# Altium integrated library TI Amplifiers and Linear PGA-VGA.IntLib: 149 symbols (part 6 of 8)
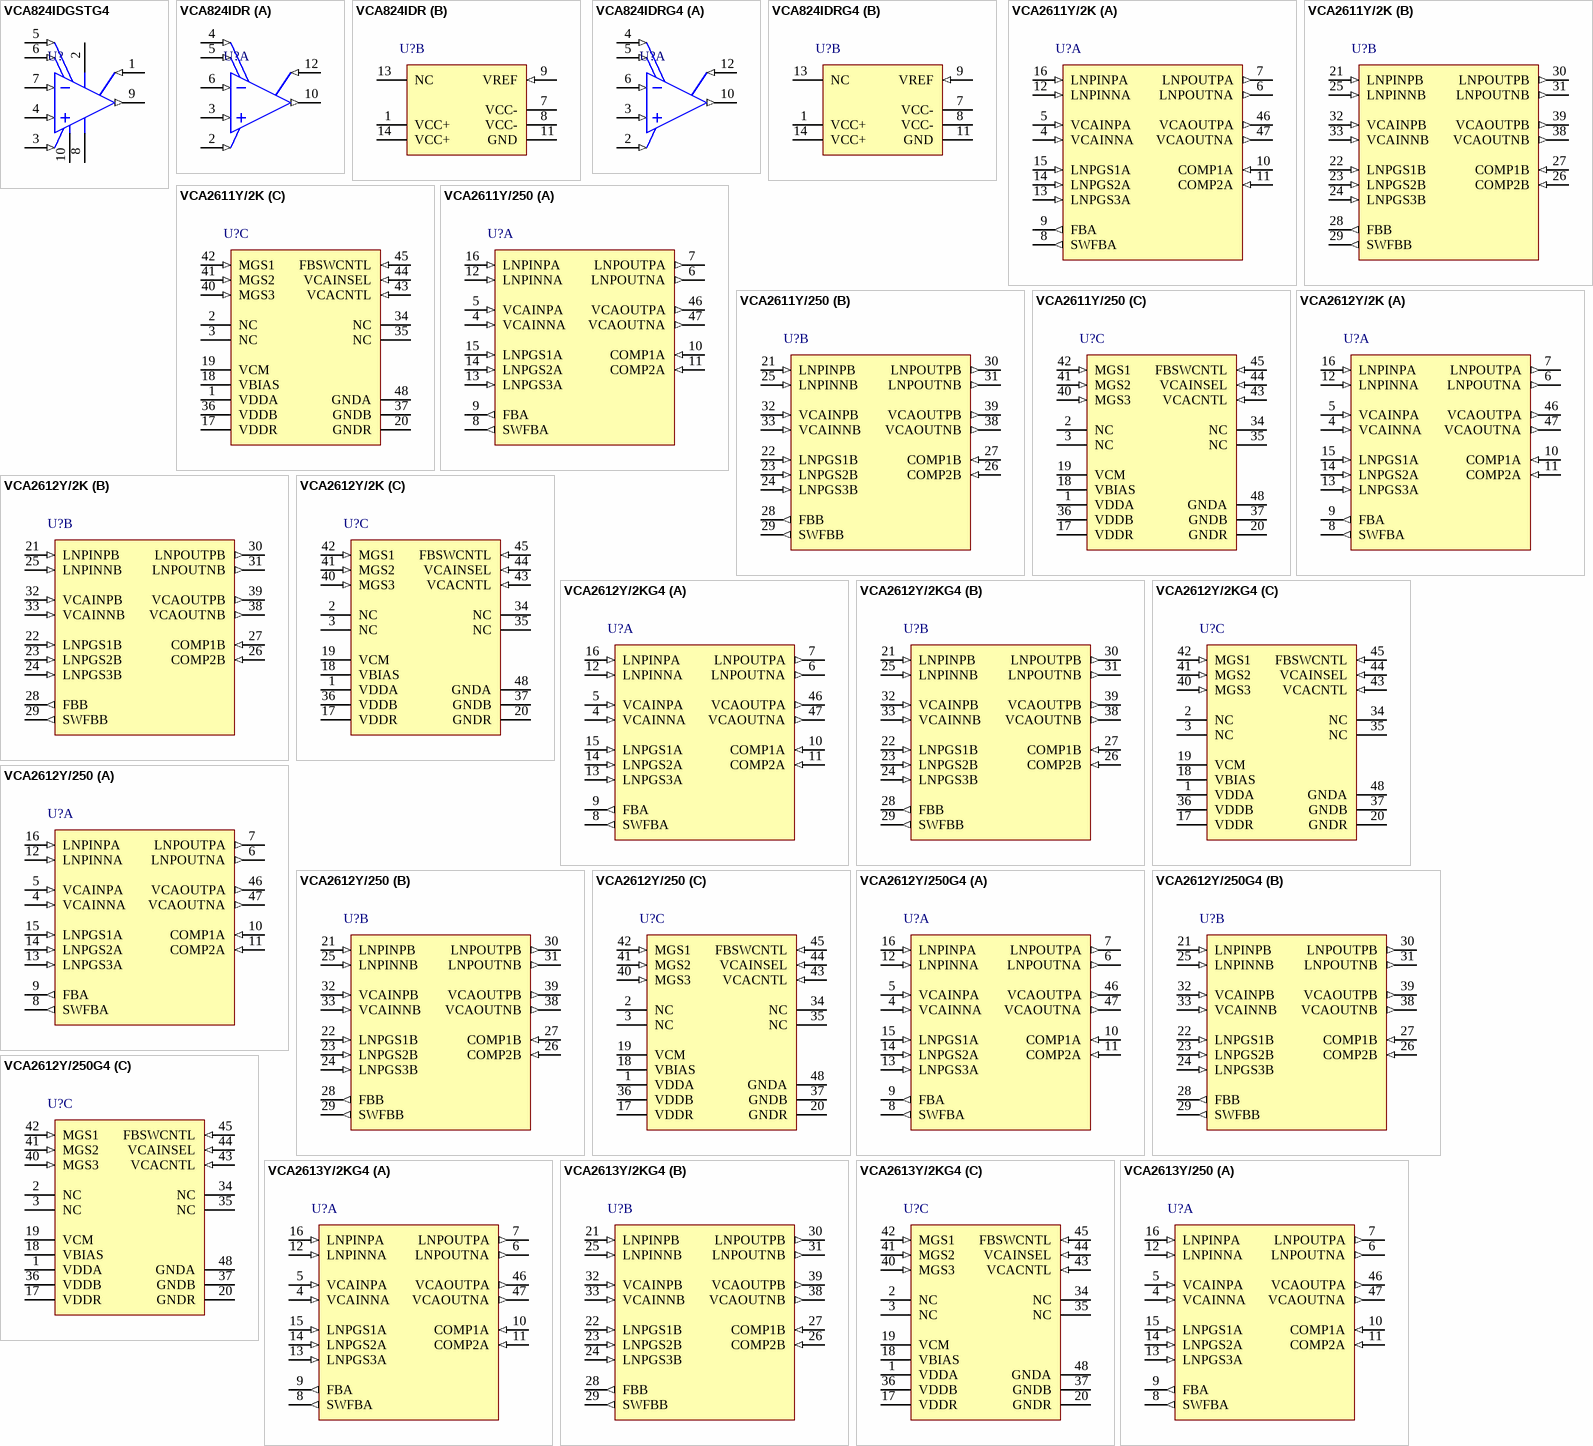
[diagram p12: symbols VCA824IDGSTG4 to VCA2613Y/250]

## VCA2612Y/250G4
designator U?
Dual Variable Gain Amplifier with Low Noise Pre-Amplifier, -40 to 85 degC, 48-pin QFP (PFB48), Green (RoHS & no Sb/Br); Manufacturer: Texas Instruments; PartNumber: VCA2612Y/250G4; BW @ Acl(MHz): 40; Iib(Max)(nA): 1; Number of Channels: 2; Slew Rate(Typ)(V/us): 300; Vn at Flatband(Typ)(nV/rtHz): 3.5; Vs(Max)(V): 5.25; Vs(Min)(V): 4.75; DatasheetVersion: SBOS117C; PackageVersion: 4073176/B, 10/1996; PackageReference: PFB48; PackageDescription: 48-Pin Plastic Flat Pack, Body 7 x 7 mm, Pitch 0.5 mm; Supplier 1: Digi-Key; Supplier Part Number 1: VCA2612Y/250G4-ND; Supplier 2: Mouser; Supplier Part Number 2: 595-VCA2612Y/250G4; Eco-Plan: Green (RoHS & no Sb/Br); SubFamily: Variable Gain Amplifier; Mounting Technology: Surface Mount; Code_JEDEC: MS-026; ComponentLink1Description: Manufacturer URL; ComponentLink1URL: http://www.ti.com/; ComponentLink2Description: Datasheet; ComponentLink2URL: http://www.ti.com/general/docs/lit/getliterature.tsp?genericPartNumber=VCA2612&fileType=pdf; ComponentLink3Description: Package Specification; ComponentLink3URL: http://www.ti.com/lit/ml/mtqf019a/mtqf019a.pdf
footprint TI-PFB48_N (QFP, 48-Leads, Body 7x7mm, Pitch 0.5mm, IPC Medium Density)
footprint TI-PFB48_L (QFP, 48-Leads, Body 7x7mm, Pitch 0.5mm, IPC High Density)
footprint TI-PFB48_M (QFP, 48-Leads, Body 7x7mm, Pitch 0.5mm, IPC Low Density)
part A pins: 4 VCAINNA (in) "Channel A VCA Negative Input", 5 VCAINPA (in) "Channel A VCA Positive Input", 6 LNPOUTNA (out) "Channel A LNP Negative Output", 7 LNPOUTPA (out) "Channel A LNP Positive Output", 8 SWFBA (out) "Channel A Switched Feedback Output", 9 FBA (out) "Channel A Feedback Output", 10 COMP1A (in) "Channel A Frequency Compensation 1", 11 COMP2A (in) "Channel A Frequency Compensation 2", 12 LNPINNA (in) "Channel A LNP Inverting Input", 13 LNPGS3A (in) "Channel A LNP Gain Strap 3", 14 LNPGS2A (in) "Channel A LNP Gain Strap 2", 15 LNPGS1A (in) "Channel A LNP Gain Strap 1", 16 LNPINPA (in) "Channel A LNP Noninverting Input", 46 VCAOUTPA (out) "Channel A VCA Positive Output", 47 VCAOUTNA (out) "Channel A VCA Negative Output"
part B pins: 21 LNPINPB (in) "Channel B LNP Noninverting Input", 22 LNPGS1B (in) "Channel B LNP Gain Strap 1", 23 LNPGS2B (in) "Channel B LNP Gain Strap 2", 24 LNPGS3B (in) "Channel B LNP Gain Strap 3", 25 LNPINNB (in) "Channel B LNP Inverting Input", 26 COMP2B (in) "Channel B Frequency Compensation 2", 27 COMP1B (in) "Channel B Frequency Compensation 1", 28 FBB (out) "Channel B Feedback Output", 29 SWFBB (out) "Channel B Switched Feedback Output", 30 LNPOUTPB (out) "Channel B LNP Positive Output", 31 LNPOUTNB (out) "Channel B LNP Negative Output", 32 VCAINPB (in) "Channel B VCA Positive Input", 33 VCAINNB (in) "Channel B VCA Negative Input", 38 VCAOUTNB (out) "Channel B VCA Negative Output", 39 VCAOUTPB (out) "Channel B VCA Positive Output"
part C pins: 1 VDDA (power) "Channel A +Supply", 2 NC "Do Not Connect", 3 NC "Do Not Connect", 17 VDDR (power) "+Supply for Internal Reference (+5V)", 18 VBIAS (power) "0.01uF Bypass to Ground", 19 VCM (power) "0.01uF Bypass to Ground", 20 GNDR (power) "Ground for Internal Reference", 34 NC "Do Not Connect", 35 NC "Do Not Connect", 36 VDDB (power) "Channel B +Analog Supply", 37 GNDB (power) "Channel B Analog Ground", 40 MGS3 (in) "Maximum Gain Select 3 (LSB)", 41 MGS2 (in) "Maximum Gain Select 2", 42 MGS1 (in) "Maximum Gain Select 1 (MSB)", 43 VCACNTL (in) "VCA Control Voltage", 44 VCAINSEL (in) "VCA Input Select, HI = External", 45 FBSWCNTL (in) "Feedback Switch Control: HI = ON", 48 GNDA (power) "Channel A Analog Ground"

## VCA2613Y/2KG4
designator U?
Dual Variable Gain Amplifier with Low Noise Pre-Amplifier, -40 to 85 degC, 48-pin QFP (PFB48); Manufacturer: Texas Instruments; PartNumber: VCA2613Y/2KG4; BW @ Acl(MHz): 40; Iib(Max)(nA): 1; Number of Channels: 2; Slew Rate(Typ)(V/us): 300; Vn at Flatband(Typ)(nV/rtHz): 3.5; Vs(Max)(V): 5.25; Vs(Min)(V): 4.75; DatasheetVersion: SBOS179D; PackageVersion: 4073176/B, 10/1996; PackageReference: PFB48; PackageDescription: 48-Pin Plastic Flat Pack, Body 7 x 7 mm, Pitch 0.5 mm; Supplier 1: Mouser; Supplier Part Number 1: N/A; SubFamily: Variable Gain Amplifier; Mounting Technology: Surface Mount; Code_JEDEC: MS-026; ComponentLink1Description: Manufacturer URL; ComponentLink1URL: http://www.ti.com/; ComponentLink2Description: Datasheet; ComponentLink2URL: http://www.ti.com/general/docs/lit/getliterature.tsp?genericPartNumber=VCA2613&fileType=pdf; ComponentLink3Description: Package Specification; ComponentLink3URL: http://www.ti.com/lit/ml/mtqf019a/mtqf019a.pdf
footprint TI-PFB48_N (QFP, 48-Leads, Body 7x7mm, Pitch 0.5mm, IPC Medium Density)
footprint TI-PFB48_L (QFP, 48-Leads, Body 7x7mm, Pitch 0.5mm, IPC High Density)
footprint TI-PFB48_M (QFP, 48-Leads, Body 7x7mm, Pitch 0.5mm, IPC Low Density)
part A pins: 4 VCAINNA (in) "Channel A VCA Negative Input", 5 VCAINPA (in) "Channel A VCA Positive Input", 6 LNPOUTNA (out) "Channel A LNP Negative Output", 7 LNPOUTPA (out) "Channel A LNP Positive Output", 8 SWFBA (out) "Channel A Switched Feedback Output", 9 FBA (out) "Channel A Feedback Output", 10 COMP1A (in) "Channel A Frequency Compensation 1", 11 COMP2A (in) "Channel A Frequency Compensation 2", 12 LNPINNA (in) "Channel A LNP Inverting Input", 13 LNPGS3A (in) "Channel A LNP Gain Strap 3", 14 LNPGS2A (in) "Channel A LNP Gain Strap 2", 15 LNPGS1A (in) "Channel A LNP Gain Strap 1", 16 LNPINPA (in) "Channel A LNP Noninverting Input", 46 VCAOUTPA (out) "Channel A VCA Positive Output", 47 VCAOUTNA (out) "Channel A VCA Negative Output"
part B pins: 21 LNPINPB (in) "Channel B LNP Noninverting Input", 22 LNPGS1B (in) "Channel B LNP Gain Strap 1", 23 LNPGS2B (in) "Channel B LNP Gain Strap 2", 24 LNPGS3B (in) "Channel B LNP Gain Strap 3", 25 LNPINNB (in) "Channel B LNP Inverting Input", 26 COMP2B (in) "Channel B Frequency Compensation 2", 27 COMP1B (in) "Channel B Frequency Compensation 1", 28 FBB (out) "Channel B Feedback Output", 29 SWFBB (out) "Channel B Switched Feedback Output", 30 LNPOUTPB (out) "Channel B LNP Positive Output", 31 LNPOUTNB (out) "Channel B LNP Negative Output", 32 VCAINPB (in) "Channel B VCA Positive Input", 33 VCAINNB (in) "Channel B VCA Negative Input", 38 VCAOUTNB (out) "Channel B VCA Negative Output", 39 VCAOUTPB (out) "Channel B VCA Positive Output"
part C pins: 1 VDDA (power) "Channel A +Supply", 2 NC "Do Not Connect", 3 NC "Do Not Connect", 17 VDDR (power) "+Supply for Internal Reference", 18 VBIAS (power) "0.01uF Bypass to Ground", 19 VCM (power) "0.01uF Bypass to Ground", 20 GNDR (power) "Ground for Internal Reference", 34 NC "Do Not Connect", 35 NC "Do Not Connect", 36 VDDB (power) "Channel B +Analog Supply", 37 GNDB (power) "Channel B Analog Ground", 40 MGS3 (in) "Maximum Gain Select 3 (LSB)", 41 MGS2 (in) "Maximum Gain Select 2", 42 MGS1 (in) "Maximum Gain Select 1 (MSB)", 43 VCACNTL (in) "VCA Control Voltage", 44 VCAINSEL (in) "VCA Input Select, HI = External", 45 FBSWCNTL (in) "Feedback Switch Control: HI = ON", 48 GNDA (power) "Channel A Analog Ground"

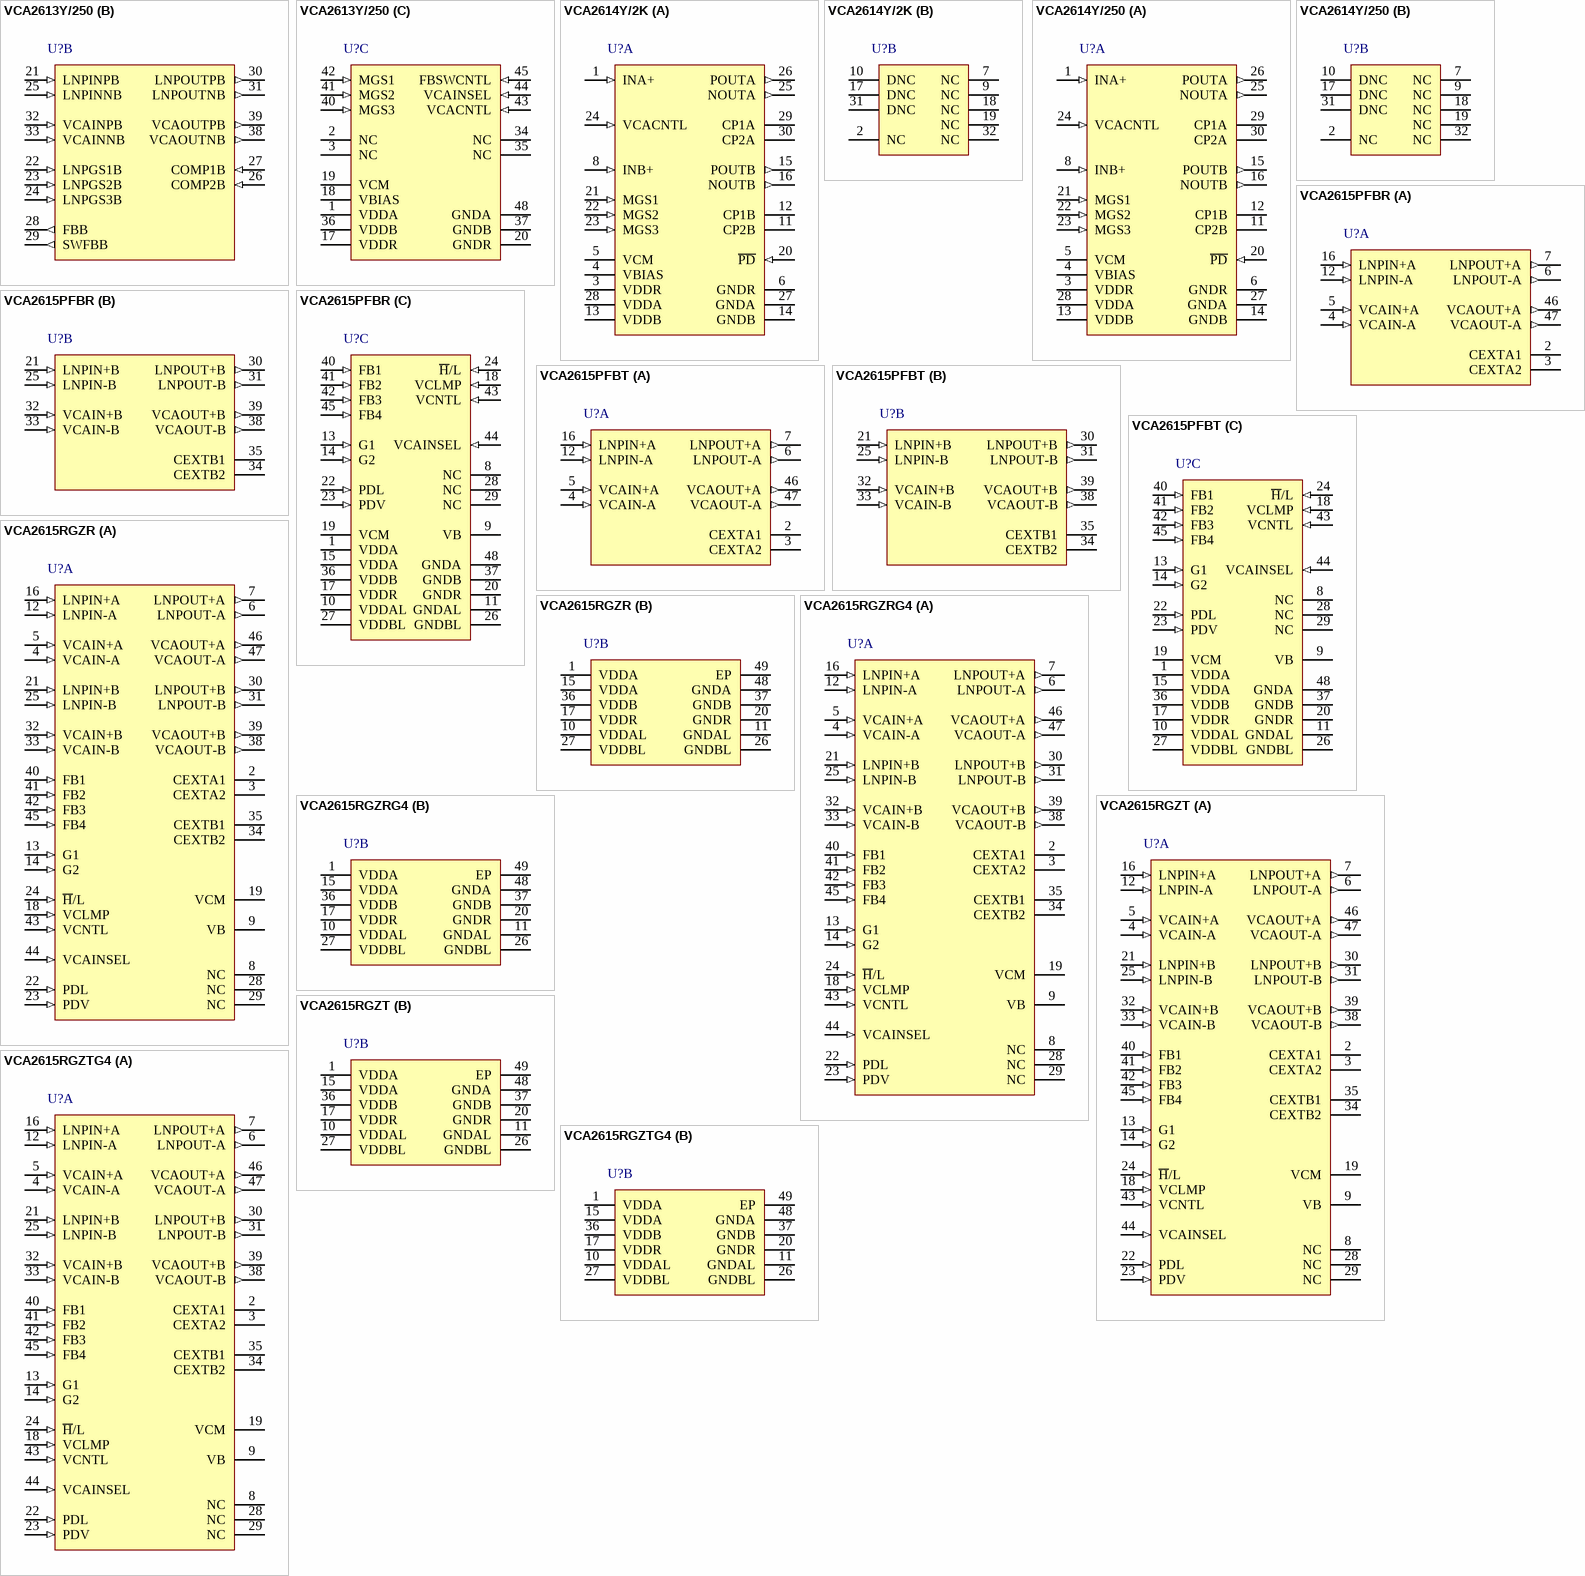
[diagram p5: symbols VCA2613Y/250 to VCA2615RGZTG4]

## VCA2613Y/250
designator U?
Dual Variable Gain Amplifier with Low Noise Pre-Amplifier, -40 to 85 degC, 48-pin QFP (PFB48), Green (RoHS & no Sb/Br); Manufacturer: Texas Instruments; PartNumber: VCA2613Y/250; BW @ Acl(MHz): 40; Iib(Max)(nA): 1; Number of Channels: 2; Slew Rate(Typ)(V/us): 300; Vn at Flatband(Typ)(nV/rtHz): 3.5; Vs(Max)(V): 5.25; Vs(Min)(V): 4.75; DatasheetVersion: SBOS179D; PackageVersion: 4073176/B, 10/1996; PackageReference: PFB48; PackageDescription: 48-Pin Plastic Flat Pack, Body 7 x 7 mm, Pitch 0.5 mm; Supplier 1: Digi-Key; Supplier Part Number 1: VCA2613YTR-ND; Supplier 2: Digi-Key; Supplier Part Number 2: VCA2613YCT-ND; Supplier 3: Digi-Key; Supplier Part Number 3: VCA2613YDKR-ND; Supplier 4: Mouser; Supplier Part Number 4: 595-VCA2613Y/250; Eco-Plan: Green (RoHS & no Sb/Br); SubFamily: Variable Gain Amplifier; Mounting Technology: Surface Mount; Code_JEDEC: MS-026; ComponentLink1Description: Manufacturer URL; ComponentLink1URL: http://www.ti.com/; ComponentLink2Description: Datasheet; ComponentLink2URL: http://www.ti.com/general/docs/lit/getliterature.tsp?genericPartNumber=VCA2613&fileType=pdf; ComponentLink3Description: Package Specification; ComponentLink3URL: http://www.ti.com/lit/ml/mtqf019a/mtqf019a.pdf
footprint TI-PFB48_N (QFP, 48-Leads, Body 7x7mm, Pitch 0.5mm, IPC Medium Density)
footprint TI-PFB48_L (QFP, 48-Leads, Body 7x7mm, Pitch 0.5mm, IPC High Density)
footprint TI-PFB48_M (QFP, 48-Leads, Body 7x7mm, Pitch 0.5mm, IPC Low Density)
part A pins: 4 VCAINNA (in) "Channel A VCA Negative Input", 5 VCAINPA (in) "Channel A VCA Positive Input", 6 LNPOUTNA (out) "Channel A LNP Negative Output", 7 LNPOUTPA (out) "Channel A LNP Positive Output", 8 SWFBA (out) "Channel A Switched Feedback Output", 9 FBA (out) "Channel A Feedback Output", 10 COMP1A (in) "Channel A Frequency Compensation 1", 11 COMP2A (in) "Channel A Frequency Compensation 2", 12 LNPINNA (in) "Channel A LNP Inverting Input", 13 LNPGS3A (in) "Channel A LNP Gain Strap 3", 14 LNPGS2A (in) "Channel A LNP Gain Strap 2", 15 LNPGS1A (in) "Channel A LNP Gain Strap 1", 16 LNPINPA (in) "Channel A LNP Noninverting Input", 46 VCAOUTPA (out) "Channel A VCA Positive Output", 47 VCAOUTNA (out) "Channel A VCA Negative Output"
part B pins: 21 LNPINPB (in) "Channel B LNP Noninverting Input", 22 LNPGS1B (in) "Channel B LNP Gain Strap 1", 23 LNPGS2B (in) "Channel B LNP Gain Strap 2", 24 LNPGS3B (in) "Channel B LNP Gain Strap 3", 25 LNPINNB (in) "Channel B LNP Inverting Input", 26 COMP2B (in) "Channel B Frequency Compensation 2", 27 COMP1B (in) "Channel B Frequency Compensation 1", 28 FBB (out) "Channel B Feedback Output", 29 SWFBB (out) "Channel B Switched Feedback Output", 30 LNPOUTPB (out) "Channel B LNP Positive Output", 31 LNPOUTNB (out) "Channel B LNP Negative Output", 32 VCAINPB (in) "Channel B VCA Positive Input", 33 VCAINNB (in) "Channel B VCA Negative Input", 38 VCAOUTNB (out) "Channel B VCA Negative Output", 39 VCAOUTPB (out) "Channel B VCA Positive Output"
part C pins: 1 VDDA (power) "Channel A +Supply", 2 NC "Do Not Connect", 3 NC "Do Not Connect", 17 VDDR (power) "+Supply for Internal Reference", 18 VBIAS (power) "0.01uF Bypass to Ground", 19 VCM (power) "0.01uF Bypass to Ground", 20 GNDR (power) "Ground for Internal Reference", 34 NC "Do Not Connect", 35 NC "Do Not Connect", 36 VDDB (power) "Channel B +Analog Supply", 37 GNDB (power) "Channel B Analog Ground", 40 MGS3 (in) "Maximum Gain Select 3 (LSB)", 41 MGS2 (in) "Maximum Gain Select 2", 42 MGS1 (in) "Maximum Gain Select 1 (MSB)", 43 VCACNTL (in) "VCA Control Voltage", 44 VCAINSEL (in) "VCA Input Select, HI = External", 45 FBSWCNTL (in) "Feedback Switch Control: HI = ON", 48 GNDA (power) "Channel A Analog Ground"

## VCA2614Y/2K
designator U?
Dual Variable Gain Amplifier with Low Noise Pre-Amplifier, -40 to 85 degC, 32-pin QFP (PBS32), Green (RoHS & no Sb/Br); Manufacturer: Texas Instruments; PartNumber: VCA2614Y/2K; BW @ Acl(MHz): 40; Iib(Max)(nA): 1; Number of Channels: 2; Slew Rate(Typ)(V/us): 300; Vn at Flatband(Typ)(nV/rtHz): 4.8; Vs(Max)(V): 5.25; Vs(Min)(V): 4.75; DatasheetVersion: SBOS185D; PackageVersion: 4087735/B, 07/2005; PackageReference: PBS32; PackageDescription: 32-Pin Plastic Flat Pack, Body 5 X 5 mm, Pitch 0.5 mm; Supplier 1: Digi-Key; Supplier Part Number 1: VCA2614Y/2K-ND; Supplier 2: Mouser; Supplier Part Number 2: 595-VCA2614Y/2K; Eco-Plan: Green (RoHS & no Sb/Br); SubFamily: Variable Gain Amplifier; Mounting Technology: Surface Mount; Code_JEDEC: MS-026; ComponentLink1Description: Manufacturer URL; ComponentLink1URL: http://www.ti.com/; ComponentLink2Description: Datasheet; ComponentLink2URL: http://www.ti.com/general/docs/lit/getliterature.tsp?genericPartNumber=VCA2614&fileType=pdf; ComponentLink3Description: Package Specification; ComponentLink3URL: http://www.ti.com/lit/ml/mpqf027a/mpqf027a.pdf
footprint TI-PBS32_N (QFP, 32-Leads, Body 5x5mm, Pitch 0.5mm, IPC Medium Density)
footprint TI-PBS32_L (QFP, 32-Leads, Body 5x5mm, Pitch 0.5mm, IPC High Density)
footprint TI-PBS32_M (QFP, 32-Leads, Body 5x5mm, Pitch 0.5mm, IPC Low Density)
part A pins: 1 INA+ (in) "Input Channel A", 3 VDDR (power) "Internal Reference Supply", 4 VBIAS (power) "Bias Voltage", 5 VCM (power) "Common-Mode Voltage", 6 GNDR (power) "Internal Reference Ground", 8 INB+ (in) "Input Channel B", 11 CP2B "Coupling Capacitor Channel B", 12 CP1B "Coupling Capacitor Channel B", 13 VDDB (power) "+5V Supply Channel B", 14 GNDB (power) "Ground Channel B", 15 POUTB (out) "Positive Output Channel B", 16 NOUTB (out) "Negative Output Channel B", 20 ~{PD} (in) "Power Down (Active LOW)", 21 MGS1 (in) "Maximum Gain Select 1 (MSB)", 22 MGS2 (in) "Maximum Gain Select 2", 23 MGS3 (in) "Maximum Gain Select 3 (LSB)", 24 VCACNTL (in) "VCA Analog Control", 25 NOUTA (out) "Negative VCA Output Channel A", 26 POUTA (out) "Positive VCA Output Channel A", 27 GNDA (power) "Ground Channel A", 28 VDDA (power) "+5V Supply Channel A", 29 CP1A "Coupling Capacitor Channel A", 30 CP2A "Coupling Capacitor Channel A"
part B pins: 2 NC "No Internal Connection", 7 NC "No Internal Connection", 9 NC "No Internal Connection", 10 DNC "Do Not Connect", 17 DNC "Do Not Connect", 18 NC "No Internal Connection", 19 NC "No Internal Connection", 31 DNC "Do Not Connect", 32 NC "No Internal Connection"

## VCA2614Y/250
designator U?
Dual Variable Gain Amplifier with Low Noise Pre-Amplifier, -40 to 85 degC, 32-pin QFP (PBS32), Green (RoHS & no Sb/Br); Manufacturer: Texas Instruments; PartNumber: VCA2614Y/250; BW @ Acl(MHz): 40; Iib(Max)(nA): 1; Number of Channels: 2; Slew Rate(Typ)(V/us): 300; Vn at Flatband(Typ)(nV/rtHz): 4.8; Vs(Max)(V): 5.25; Vs(Min)(V): 4.75; DatasheetVersion: SBOS185D; PackageVersion: 4087735/B, 07/2005; PackageReference: PBS32; PackageDescription: 32-Pin Plastic Flat Pack, Body 5 X 5 mm, Pitch 0.5 mm; Supplier 1: Digi-Key; Supplier Part Number 1: VCA2614Y/250TR-ND; Supplier 2: Digi-Key; Supplier Part Number 2: VCA2614Y/250CT-ND; Supplier 3: Newark; Supplier Part Number 3: 77C3577; Supplier 4: Mouser; Supplier Part Number 4: 595-VCA2614Y/250; Eco-Plan: Green (RoHS & no Sb/Br); SubFamily: Variable Gain Amplifier; Mounting Technology: Surface Mount; Code_JEDEC: MS-026; ComponentLink1Description: Manufacturer URL; ComponentLink1URL: http://www.ti.com/; ComponentLink2Description: Datasheet; ComponentLink2URL: http://www.ti.com/general/docs/lit/getliterature.tsp?genericPartNumber=VCA2614&fileType=pdf; ComponentLink3Description: Package Specification; ComponentLink3URL: http://www.ti.com/lit/ml/mpqf027a/mpqf027a.pdf
footprint TI-PBS32_N (QFP, 32-Leads, Body 5x5mm, Pitch 0.5mm, IPC Medium Density)
footprint TI-PBS32_L (QFP, 32-Leads, Body 5x5mm, Pitch 0.5mm, IPC High Density)
footprint TI-PBS32_M (QFP, 32-Leads, Body 5x5mm, Pitch 0.5mm, IPC Low Density)
part A pins: 1 INA+ (in) "Input Channel A", 3 VDDR (power) "Internal Reference Supply", 4 VBIAS (power) "Bias Voltage", 5 VCM (power) "Common-Mode Voltage", 6 GNDR (power) "Internal Reference Ground", 8 INB+ (in) "Input Channel B", 11 CP2B "Coupling Capacitor Channel B", 12 CP1B "Coupling Capacitor Channel B", 13 VDDB (power) "+5V Supply Channel B", 14 GNDB (power) "Ground Channel B", 15 POUTB (out) "Positive Output Channel B", 16 NOUTB (out) "Negative Output Channel B", 20 ~{PD} (in) "Power Down (Active LOW)", 21 MGS1 (in) "Maximum Gain Select 1 (MSB)", 22 MGS2 (in) "Maximum Gain Select 2", 23 MGS3 (in) "Maximum Gain Select 3 (LSB)", 24 VCACNTL (in) "VCA Analog Control", 25 NOUTA (out) "Negative VCA Output Channel A", 26 POUTA (out) "Positive VCA Output Channel A", 27 GNDA (power) "Ground Channel A", 28 VDDA (power) "+5V Supply Channel A", 29 CP1A "Coupling Capacitor Channel A", 30 CP2A "Coupling Capacitor Channel A"
part B pins: 2 NC "No Internal Connection", 7 NC "No Internal Connection", 9 NC "No Internal Connection", 10 DNC "Do Not Connect", 17 DNC "Do Not Connect", 18 NC "No Internal Connection", 19 NC "No Internal Connection", 31 DNC "Do Not Connect", 32 NC "No Internal Connection"

## VCA2615PFBR
designator U?
2-Channel Variable Gain Amplifier, -40 to 85 degC, 48-pin QFP (PFB48), Green (RoHS & no Sb/Br); Manufacturer: Texas Instruments; PartNumber: VCA2615PFBR; BW @ Acl(MHz): 50; Number of Channels: 2; Slew Rate(Typ)(V/us): 100; Vn at Flatband(Typ)(nV/rtHz): 0.8; Vs(Max)(V): 5.25; Vs(Min)(V): 4.75; DatasheetVersion: SBOS316D; PackageVersion: 4073176/B, 10/1996; PackageReference: PFB48; PackageDescription: 48-Pin Plastic Flat Pack, Body 7 x 7 mm, Pitch 0.5 mm; Supplier 1: Digi-Key; Supplier Part Number 1: 296-23594-2-ND; Supplier 2: Digi-Key; Supplier Part Number 2: 296-23594-1-ND; Supplier 3: Digi-Key; Supplier Part Number 3: 296-23594-6-ND; Supplier 4: Newark; Supplier Part Number 4: 03P5357; Supplier 5: Mouser; Supplier Part Number 5: 595-VCA2615PFBR; Eco-Plan: Green (RoHS & no Sb/Br); SubFamily: Variable Gain Amplifier; Mounting Technology: Surface Mount; Code_JEDEC: MS-026; ComponentLink1Description: Manufacturer URL; ComponentLink1URL: http://www.ti.com/; ComponentLink2Description: Datasheet; ComponentLink2URL: http://www.ti.com/general/docs/lit/getliterature.tsp?genericPartNumber=VCA2615&fileType=pdf; ComponentLink3Description: Package Specification; ComponentLink3URL: http://www.ti.com/lit/ml/mtqf019a/mtqf019a.pdf
footprint TI-PFB48_N (QFP, 48-Leads, Body 7x7mm, Pitch 0.5mm, IPC Medium Density)
footprint TI-PFB48_L (QFP, 48-Leads, Body 7x7mm, Pitch 0.5mm, IPC High Density)
footprint TI-PFB48_M (QFP, 48-Leads, Body 7x7mm, Pitch 0.5mm, IPC Low Density)
part A pins: 2 CEXTA1 "External Capacitor", 3 CEXTA2 "External Capacitor", 4 VCAIN-A (in) "Channel A VCA Negative Input", 5 VCAIN+A (in) "Channel A VCA Positive Input", 6 LNPOUT-A (out) "Channel A LNP Negative Output", 7 LNPOUT+A (out) "Channel A LNP Positive Output", 12 LNPIN-A (in) "Channel A LNP Inverting Input", 16 LNPIN+A (in) "Channel A LNP Noninverting Input", 46 VCAOUT+A (out) "Channel A VCA Positive Pin", 47 VCAOUT-A (out) "Channel A VCA Negative Pin"
part B pins: 21 LNPIN+B (in) "Channel B LNP Noninverting Input", 25 LNPIN-B (in) "Channel B LNP Inverting Input", 30 LNPOUT+B (out) "Channel B LNP Positive Output", 31 LNPOUT-B (out) "Channel B LNP Negative Output", 32 VCAIN+B (in) "Channel B VCA Positive Input", 33 VCAIN-B (in) "Channel B VCA Negative Input", 34 CEXTB2 "External Capacitor", 35 CEXTB1 "External Capacitor", 38 VCAOUT-B (out) "Channel B VCA Negative Output", 39 VCAOUT+B (out) "Channel B VCA Positive Output"
part C pins: 1 VDDA (power) "Channel A + Supply", 8 NC "Do Not Connect", 9 VB "0.01uF Bypass", 10 VDDAL (power) "VDD A Channel LNP", 11 GNDAL (power) "GND A Channel LNP", 13 G1 (in) "LNP Gain Setting Pin (MSB)", 14 G2 (in) "LNP Gain Setting Pin (LSB)", 15 VDDA (power) "Supply Pin for Gain Setting", 17 VDDR (power) "Supply for Internal Reference", 18 VCLMP (in) "VCA Clamp Voltage Setting Pin", 19 VCM (power) "0.1uF Bypass", 20 GNDR (power) "Ground for Internal Reference", 22 PDL (in) "Power Down LNPs", 23 PDV (in) "Power Down VCAs", 24 ~{H}/L (in) "VCA High/Low Gain Mode", 26 GNDBL (power) "GND B Channel LNP", 27 VDDBL (power) "VDD B Channel LNP", 28 NC "Do Not Connect", 29 NC "Do Not Connect", 36 VDDB (power) "Channel B + Supply", 37 GNDB (power) "Channel B Ground", 40 FB1 (in) "Feedback Control Pin", 41 FB2 (in) "Feedback Control Pin", 42 FB3 (in) "Feedback Control Pin", 43 VCNTL (in) "VCA Control Voltage Input", 44 VCAINSEL (in) "VCA Input Select, Hi = External", 45 FB4 (in) "Feedback Control Pin", 48 GNDA (power) "Channel A Ground"

## VCA2615PFBT
designator U?
2-Channel Variable Gain Amplifier, -40 to 85 degC, 48-pin QFP (PFB48), Green (RoHS & no Sb/Br); Manufacturer: Texas Instruments; PartNumber: VCA2615PFBT; BW @ Acl(MHz): 50; Number of Channels: 2; Slew Rate(Typ)(V/us): 100; Vn at Flatband(Typ)(nV/rtHz): 0.8; Vs(Max)(V): 5.25; Vs(Min)(V): 4.75; DatasheetVersion: SBOS316D; PackageVersion: 4073176/B, 10/1996; PackageReference: PFB48; PackageDescription: 48-Pin Plastic Flat Pack, Body 7 x 7 mm, Pitch 0.5 mm; Supplier 1: Digi-Key; Supplier Part Number 1: VCA2615PFBT-ND; Supplier 2: Mouser; Supplier Part Number 2: 595-VCA2615PFBT; Eco-Plan: Green (RoHS & no Sb/Br); SubFamily: Variable Gain Amplifier; Mounting Technology: Surface Mount; Code_JEDEC: MS-026; ComponentLink1Description: Manufacturer URL; ComponentLink1URL: http://www.ti.com/; ComponentLink2Description: Datasheet; ComponentLink2URL: http://www.ti.com/general/docs/lit/getliterature.tsp?genericPartNumber=VCA2615&fileType=pdf; ComponentLink3Description: Package Specification; ComponentLink3URL: http://www.ti.com/lit/ml/mtqf019a/mtqf019a.pdf
footprint TI-PFB48_N (QFP, 48-Leads, Body 7x7mm, Pitch 0.5mm, IPC Medium Density)
footprint TI-PFB48_L (QFP, 48-Leads, Body 7x7mm, Pitch 0.5mm, IPC High Density)
footprint TI-PFB48_M (QFP, 48-Leads, Body 7x7mm, Pitch 0.5mm, IPC Low Density)
part A pins: 2 CEXTA1 "External Capacitor", 3 CEXTA2 "External Capacitor", 4 VCAIN-A (in) "Channel A VCA Negative Input", 5 VCAIN+A (in) "Channel A VCA Positive Input", 6 LNPOUT-A (out) "Channel A LNP Negative Output", 7 LNPOUT+A (out) "Channel A LNP Positive Output", 12 LNPIN-A (in) "Channel A LNP Inverting Input", 16 LNPIN+A (in) "Channel A LNP Noninverting Input", 46 VCAOUT+A (out) "Channel A VCA Positive Pin", 47 VCAOUT-A (out) "Channel A VCA Negative Pin"
part B pins: 21 LNPIN+B (in) "Channel B LNP Noninverting Input", 25 LNPIN-B (in) "Channel B LNP Inverting Input", 30 LNPOUT+B (out) "Channel B LNP Positive Output", 31 LNPOUT-B (out) "Channel B LNP Negative Output", 32 VCAIN+B (in) "Channel B VCA Positive Input", 33 VCAIN-B (in) "Channel B VCA Negative Input", 34 CEXTB2 "External Capacitor", 35 CEXTB1 "External Capacitor", 38 VCAOUT-B (out) "Channel B VCA Negative Output", 39 VCAOUT+B (out) "Channel B VCA Positive Output"
part C pins: 1 VDDA (power) "Channel A + Supply", 8 NC "Do Not Connect", 9 VB "0.01uF Bypass", 10 VDDAL (power) "VDD A Channel LNP", 11 GNDAL (power) "GND A Channel LNP", 13 G1 (in) "LNP Gain Setting Pin (MSB)", 14 G2 (in) "LNP Gain Setting Pin (LSB)", 15 VDDA (power) "Supply Pin for Gain Setting", 17 VDDR (power) "Supply for Internal Reference", 18 VCLMP (in) "VCA Clamp Voltage Setting Pin", 19 VCM (power) "0.1uF Bypass", 20 GNDR (power) "Ground for Internal Reference", 22 PDL (in) "Power Down LNPs", 23 PDV (in) "Power Down VCAs", 24 ~{H}/L (in) "VCA High/Low Gain Mode", 26 GNDBL (power) "GND B Channel LNP", 27 VDDBL (power) "VDD B Channel LNP", 28 NC "Do Not Connect", 29 NC "Do Not Connect", 36 VDDB (power) "Channel B + Supply", 37 GNDB (power) "Channel B Ground", 40 FB1 (in) "Feedback Control Pin", 41 FB2 (in) "Feedback Control Pin", 42 FB3 (in) "Feedback Control Pin", 43 VCNTL (in) "VCA Control Voltage Input", 44 VCAINSEL (in) "VCA Input Select, Hi = External", 45 FB4 (in) "Feedback Control Pin", 48 GNDA (power) "Channel A Ground"

## VCA2615RGZR
designator U?
2-Channel Variable Gain Amplifier, -40 to 85 degC, 48-pin QFN (RGZ48), Green (RoHS & no Sb/Br); Manufacturer: Texas Instruments; PartNumber: VCA2615RGZR; BW @ Acl(MHz): 50; Number of Channels: 2; Slew Rate(Typ)(V/us): 100; Vn at Flatband(Typ)(nV/rtHz): 0.8; Vs(Max)(V): 5.25; Vs(Min)(V): 4.75; DatasheetVersion: SBOS316D; PackageVersion: 4204101/F, 06/2011; PackageReference: RGZ48-5150X5150TP; PackageDescription: 48-Pin Plastic Flat Pack, Body 7 x 7 mm, Pitch 0.5 mm; Supplier 1: Digi-Key; Supplier Part Number 1: VCA2615RGZR-ND; Supplier 2: Mouser; Supplier Part Number 2: 595-VCA2615RGZR; Eco-Plan: Green (RoHS & no Sb/Br); SubFamily: Variable Gain Amplifier; Mounting Technology: Surface Mount; Code_JEDEC: MO-220; ComponentLink1Description: Manufacturer URL; ComponentLink1URL: http://www.ti.com/; ComponentLink2Description: Datasheet; ComponentLink2URL: http://www.ti.com/general/docs/lit/getliterature.tsp?genericPartNumber=VCA2615&fileType=pdf; ComponentLink3Description: Package Specification; ComponentLink3URL: http://www.ti.com/lit/ml/mpqf123e/mpqf123e.pdf
footprint TI-RGZ48-5150X5150TP_V (QFN, 48-Leads, Body 7x7mm, Pitch 0.5mm, Thermal Pad 5.15x5.15mm, TI Recommended)
part A pins: 2 CEXTA1 "External Capacitor", 3 CEXTA2 "External Capacitor", 4 VCAIN-A (in) "Channel A VCA Negative Input", 5 VCAIN+A (in) "Channel A VCA Positive Input", 6 LNPOUT-A (out) "Channel A LNP Negative Output", 7 LNPOUT+A (out) "Channel A LNP Positive Output", 8 NC "Do Not Connect", 9 VB "0.01uF Bypass", 12 LNPIN-A (in) "Channel A LNP Inverting Input", 13 G1 (in) "LNP Gain Setting Pin (MSB)", 14 G2 (in) "LNP Gain Setting Pin (LSB)", 16 LNPIN+A (in) "Channel A LNP Noninverting Input", 18 VCLMP (in) "VCA Clamp Voltage Setting Pin", 19 VCM (power) "0.1uF Bypass", 21 LNPIN+B (in) "Channel B LNP Noninverting Input", 22 PDL (in) "Power Down LNPs", 23 PDV (in) "Power Down VCAs", 24 ~{H}/L (in) "VCA High/Low Gain Mode", 25 LNPIN-B (in) "Channel B LNP Inverting Input", 28 NC "Do Not Connect", 29 NC "Do Not Connect", 30 LNPOUT+B (out) "Channel B LNP Positive Output", 31 LNPOUT-B (out) "Channel B LNP Negative Output", 32 VCAIN+B (in) "Channel B VCA Positive Input", 33 VCAIN-B (in) "Channel B VCA Negative Input", 34 CEXTB2 "External Capacitor", 35 CEXTB1 "External Capacitor", 38 VCAOUT-B (out) "Channel B VCA Negative Output", 39 VCAOUT+B (out) "Channel B VCA Positive Output", 40 FB1 (in) "Feedback Control Pin", 41 FB2 (in) "Feedback Control Pin", 42 FB3 (in) "Feedback Control Pin", 43 VCNTL (in) "VCA Control Voltage Input", 44 VCAINSEL (in) "VCA Input Select, Hi = External", 45 FB4 (in) "Feedback Control Pin", 46 VCAOUT+A (out) "Channel A VCA Positive Pin", 47 VCAOUT-A (out) "Channel A VCA Negative Pin"
part B pins: 1 VDDA (power) "Channel A + Supply", 10 VDDAL (power) "VDD A Channel LNP", 11 GNDAL (power) "GND A Channel LNP", 15 VDDA (power) "Supply Pin for Gain Setting", 17 VDDR (power) "Supply for Internal Reference", 20 GNDR (power) "Ground for Internal Reference", 26 GNDBL (power) "GND B Channel LNP", 27 VDDBL (power) "VDD B Channel LNP", 36 VDDB (power) "Channel B + Supply", 37 GNDB (power) "Channel B Ground", 48 GNDA (power) "Channel A Ground", 49 EP (power)

## VCA2615RGZRG4
designator U?
2-Channel Variable Gain Amplifier, -40 to 85 degC, 48-pin QFN (RGZ48), Green (RoHS & no Sb/Br); Manufacturer: Texas Instruments; PartNumber: VCA2615RGZRG4; BW @ Acl(MHz): 50; Number of Channels: 2; Slew Rate(Typ)(V/us): 100; Vn at Flatband(Typ)(nV/rtHz): 0.8; Vs(Max)(V): 5.25; Vs(Min)(V): 4.75; DatasheetVersion: SBOS316D; PackageVersion: 4204101/F, 06/2011; PackageReference: RGZ48-5150X5150TP; PackageDescription: 48-Pin Plastic Flat Pack, Body 7 x 7 mm, Pitch 0.5 mm; Supplier 1: Digi-Key; Supplier Part Number 1: VCA2615RGZRG4-ND; Supplier 2: Mouser; Supplier Part Number 2: 595-VCA2615RGZRG4; Eco-Plan: Green (RoHS & no Sb/Br); SubFamily: Variable Gain Amplifier; Mounting Technology: Surface Mount; Code_JEDEC: MO-220; ComponentLink1Description: Manufacturer URL; ComponentLink1URL: http://www.ti.com/; ComponentLink2Description: Datasheet; ComponentLink2URL: http://www.ti.com/general/docs/lit/getliterature.tsp?genericPartNumber=VCA2615&fileType=pdf; ComponentLink3Description: Package Specification; ComponentLink3URL: http://www.ti.com/lit/ml/mpqf123e/mpqf123e.pdf
footprint TI-RGZ48-5150X5150TP_V (QFN, 48-Leads, Body 7x7mm, Pitch 0.5mm, Thermal Pad 5.15x5.15mm, TI Recommended)
part A pins: 2 CEXTA1 "External Capacitor", 3 CEXTA2 "External Capacitor", 4 VCAIN-A (in) "Channel A VCA Negative Input", 5 VCAIN+A (in) "Channel A VCA Positive Input", 6 LNPOUT-A (out) "Channel A LNP Negative Output", 7 LNPOUT+A (out) "Channel A LNP Positive Output", 8 NC "Do Not Connect", 9 VB "0.01uF Bypass", 12 LNPIN-A (in) "Channel A LNP Inverting Input", 13 G1 (in) "LNP Gain Setting Pin (MSB)", 14 G2 (in) "LNP Gain Setting Pin (LSB)", 16 LNPIN+A (in) "Channel A LNP Noninverting Input", 18 VCLMP (in) "VCA Clamp Voltage Setting Pin", 19 VCM (power) "0.1uF Bypass", 21 LNPIN+B (in) "Channel B LNP Noninverting Input", 22 PDL (in) "Power Down LNPs", 23 PDV (in) "Power Down VCAs", 24 ~{H}/L (in) "VCA High/Low Gain Mode", 25 LNPIN-B (in) "Channel B LNP Inverting Input", 28 NC "Do Not Connect", 29 NC "Do Not Connect", 30 LNPOUT+B (out) "Channel B LNP Positive Output", 31 LNPOUT-B (out) "Channel B LNP Negative Output", 32 VCAIN+B (in) "Channel B VCA Positive Input", 33 VCAIN-B (in) "Channel B VCA Negative Input", 34 CEXTB2 "External Capacitor", 35 CEXTB1 "External Capacitor", 38 VCAOUT-B (out) "Channel B VCA Negative Output", 39 VCAOUT+B (out) "Channel B VCA Positive Output", 40 FB1 (in) "Feedback Control Pin", 41 FB2 (in) "Feedback Control Pin", 42 FB3 (in) "Feedback Control Pin", 43 VCNTL (in) "VCA Control Voltage Input", 44 VCAINSEL (in) "VCA Input Select, Hi = External", 45 FB4 (in) "Feedback Control Pin", 46 VCAOUT+A (out) "Channel A VCA Positive Pin", 47 VCAOUT-A (out) "Channel A VCA Negative Pin"
part B pins: 1 VDDA (power) "Channel A + Supply", 10 VDDAL (power) "VDD A Channel LNP", 11 GNDAL (power) "GND A Channel LNP", 15 VDDA (power) "Supply Pin for Gain Setting", 17 VDDR (power) "Supply for Internal Reference", 20 GNDR (power) "Ground for Internal Reference", 26 GNDBL (power) "GND B Channel LNP", 27 VDDBL (power) "VDD B Channel LNP", 36 VDDB (power) "Channel B + Supply", 37 GNDB (power) "Channel B Ground", 48 GNDA (power) "Channel A Ground", 49 EP (power)

## VCA2615RGZT
designator U?
2-Channel Variable Gain Amplifier, -40 to 85 degC, 48-pin QFN (RGZ48), Green (RoHS & no Sb/Br); Manufacturer: Texas Instruments; PartNumber: VCA2615RGZT; BW @ Acl(MHz): 50; Number of Channels: 2; Slew Rate(Typ)(V/us): 100; Vn at Flatband(Typ)(nV/rtHz): 0.8; Vs(Max)(V): 5.25; Vs(Min)(V): 4.75; DatasheetVersion: SBOS316D; PackageVersion: 4204101/F, 06/2011; PackageReference: RGZ48-5150X5150TP; PackageDescription: 48-Pin Plastic Flat Pack, Body 7 x 7 mm, Pitch 0.5 mm; Supplier 1: Digi-Key; Supplier Part Number 1: 296-19304-2-ND; Supplier 2: Digi-Key; Supplier Part Number 2: 296-19304-1-ND; Supplier 3: Digi-Key; Supplier Part Number 3: 296-19304-6-ND; Supplier 4: Mouser; Supplier Part Number 4: 595-VCA2615RGZT; Eco-Plan: Green (RoHS & no Sb/Br); SubFamily: Variable Gain Amplifier; Mounting Technology: Surface Mount; Code_JEDEC: MO-220; ComponentLink1Description: Manufacturer URL; ComponentLink1URL: http://www.ti.com/; ComponentLink2Description: Datasheet; ComponentLink2URL: http://www.ti.com/general/docs/lit/getliterature.tsp?genericPartNumber=VCA2615&fileType=pdf; ComponentLink3Description: Package Specification; ComponentLink3URL: http://www.ti.com/lit/ml/mpqf123e/mpqf123e.pdf
footprint TI-RGZ48-5150X5150TP_V (QFN, 48-Leads, Body 7x7mm, Pitch 0.5mm, Thermal Pad 5.15x5.15mm, TI Recommended)
part A pins: 2 CEXTA1 "External Capacitor", 3 CEXTA2 "External Capacitor", 4 VCAIN-A (in) "Channel A VCA Negative Input", 5 VCAIN+A (in) "Channel A VCA Positive Input", 6 LNPOUT-A (out) "Channel A LNP Negative Output", 7 LNPOUT+A (out) "Channel A LNP Positive Output", 8 NC "Do Not Connect", 9 VB "0.01uF Bypass", 12 LNPIN-A (in) "Channel A LNP Inverting Input", 13 G1 (in) "LNP Gain Setting Pin (MSB)", 14 G2 (in) "LNP Gain Setting Pin (LSB)", 16 LNPIN+A (in) "Channel A LNP Noninverting Input", 18 VCLMP (in) "VCA Clamp Voltage Setting Pin", 19 VCM (power) "0.1uF Bypass", 21 LNPIN+B (in) "Channel B LNP Noninverting Input", 22 PDL (in) "Power Down LNPs", 23 PDV (in) "Power Down VCAs", 24 ~{H}/L (in) "VCA High/Low Gain Mode", 25 LNPIN-B (in) "Channel B LNP Inverting Input", 28 NC "Do Not Connect", 29 NC "Do Not Connect", 30 LNPOUT+B (out) "Channel B LNP Positive Output", 31 LNPOUT-B (out) "Channel B LNP Negative Output", 32 VCAIN+B (in) "Channel B VCA Positive Input", 33 VCAIN-B (in) "Channel B VCA Negative Input", 34 CEXTB2 "External Capacitor", 35 CEXTB1 "External Capacitor", 38 VCAOUT-B (out) "Channel B VCA Negative Output", 39 VCAOUT+B (out) "Channel B VCA Positive Output", 40 FB1 (in) "Feedback Control Pin", 41 FB2 (in) "Feedback Control Pin", 42 FB3 (in) "Feedback Control Pin", 43 VCNTL (in) "VCA Control Voltage Input", 44 VCAINSEL (in) "VCA Input Select, Hi = External", 45 FB4 (in) "Feedback Control Pin", 46 VCAOUT+A (out) "Channel A VCA Positive Pin", 47 VCAOUT-A (out) "Channel A VCA Negative Pin"
part B pins: 1 VDDA (power) "Channel A + Supply", 10 VDDAL (power) "VDD A Channel LNP", 11 GNDAL (power) "GND A Channel LNP", 15 VDDA (power) "Supply Pin for Gain Setting", 17 VDDR (power) "Supply for Internal Reference", 20 GNDR (power) "Ground for Internal Reference", 26 GNDBL (power) "GND B Channel LNP", 27 VDDBL (power) "VDD B Channel LNP", 36 VDDB (power) "Channel B + Supply", 37 GNDB (power) "Channel B Ground", 48 GNDA (power) "Channel A Ground", 49 EP (power)

## VCA2615RGZTG4
designator U?
2-Channel Variable Gain Amplifier, -40 to 85 degC, 48-pin QFN (RGZ48), Green (RoHS & no Sb/Br); Manufacturer: Texas Instruments; PartNumber: VCA2615RGZTG4; BW @ Acl(MHz): 50; Number of Channels: 2; Slew Rate(Typ)(V/us): 100; Vn at Flatband(Typ)(nV/rtHz): 0.8; Vs(Max)(V): 5.25; Vs(Min)(V): 4.75; DatasheetVersion: SBOS316D; PackageVersion: 4204101/F, 06/2011; PackageReference: RGZ48-5150X5150TP; PackageDescription: 48-Pin Plastic Flat Pack, Body 7 x 7 mm, Pitch 0.5 mm; Supplier 1: Digi-Key; Supplier Part Number 1: VCA2615RGZTG4-ND; Supplier 2: Newark; Supplier Part Number 2: 80K3588; Supplier 3: Mouser; Supplier Part Number 3: 595-VCA2615RGZTG4; Eco-Plan: Green (RoHS & no Sb/Br); SubFamily: Variable Gain Amplifier; Mounting Technology: Surface Mount; Code_JEDEC: MO-220; ComponentLink1Description: Manufacturer URL; ComponentLink1URL: http://www.ti.com/; ComponentLink2Description: Datasheet; ComponentLink2URL: http://www.ti.com/general/docs/lit/getliterature.tsp?genericPartNumber=VCA2615&fileType=pdf; ComponentLink3Description: Package Specification; ComponentLink3URL: http://www.ti.com/lit/ml/mpqf123e/mpqf123e.pdf
footprint TI-RGZ48-5150X5150TP_V (QFN, 48-Leads, Body 7x7mm, Pitch 0.5mm, Thermal Pad 5.15x5.15mm, TI Recommended)
part A pins: 2 CEXTA1 "External Capacitor", 3 CEXTA2 "External Capacitor", 4 VCAIN-A (in) "Channel A VCA Negative Input", 5 VCAIN+A (in) "Channel A VCA Positive Input", 6 LNPOUT-A (out) "Channel A LNP Negative Output", 7 LNPOUT+A (out) "Channel A LNP Positive Output", 8 NC "Do Not Connect", 9 VB "0.01uF Bypass", 12 LNPIN-A (in) "Channel A LNP Inverting Input", 13 G1 (in) "LNP Gain Setting Pin (MSB)", 14 G2 (in) "LNP Gain Setting Pin (LSB)", 16 LNPIN+A (in) "Channel A LNP Noninverting Input", 18 VCLMP (in) "VCA Clamp Voltage Setting Pin", 19 VCM (power) "0.1uF Bypass", 21 LNPIN+B (in) "Channel B LNP Noninverting Input", 22 PDL (in) "Power Down LNPs", 23 PDV (in) "Power Down VCAs", 24 ~{H}/L (in) "VCA High/Low Gain Mode", 25 LNPIN-B (in) "Channel B LNP Inverting Input", 28 NC "Do Not Connect", 29 NC "Do Not Connect", 30 LNPOUT+B (out) "Channel B LNP Positive Output", 31 LNPOUT-B (out) "Channel B LNP Negative Output", 32 VCAIN+B (in) "Channel B VCA Positive Input", 33 VCAIN-B (in) "Channel B VCA Negative Input", 34 CEXTB2 "External Capacitor", 35 CEXTB1 "External Capacitor", 38 VCAOUT-B (out) "Channel B VCA Negative Output", 39 VCAOUT+B (out) "Channel B VCA Positive Output", 40 FB1 (in) "Feedback Control Pin", 41 FB2 (in) "Feedback Control Pin", 42 FB3 (in) "Feedback Control Pin", 43 VCNTL (in) "VCA Control Voltage Input", 44 VCAINSEL (in) "VCA Input Select, Hi = External", 45 FB4 (in) "Feedback Control Pin", 46 VCAOUT+A (out) "Channel A VCA Positive Pin", 47 VCAOUT-A (out) "Channel A VCA Negative Pin"
part B pins: 1 VDDA (power) "Channel A + Supply", 10 VDDAL (power) "VDD A Channel LNP", 11 GNDAL (power) "GND A Channel LNP", 15 VDDA (power) "Supply Pin for Gain Setting", 17 VDDR (power) "Supply for Internal Reference", 20 GNDR (power) "Ground for Internal Reference", 26 GNDBL (power) "GND B Channel LNP", 27 VDDBL (power) "VDD B Channel LNP", 36 VDDB (power) "Channel B + Supply", 37 GNDB (power) "Channel B Ground", 48 GNDA (power) "Channel A Ground", 49 EP (power)

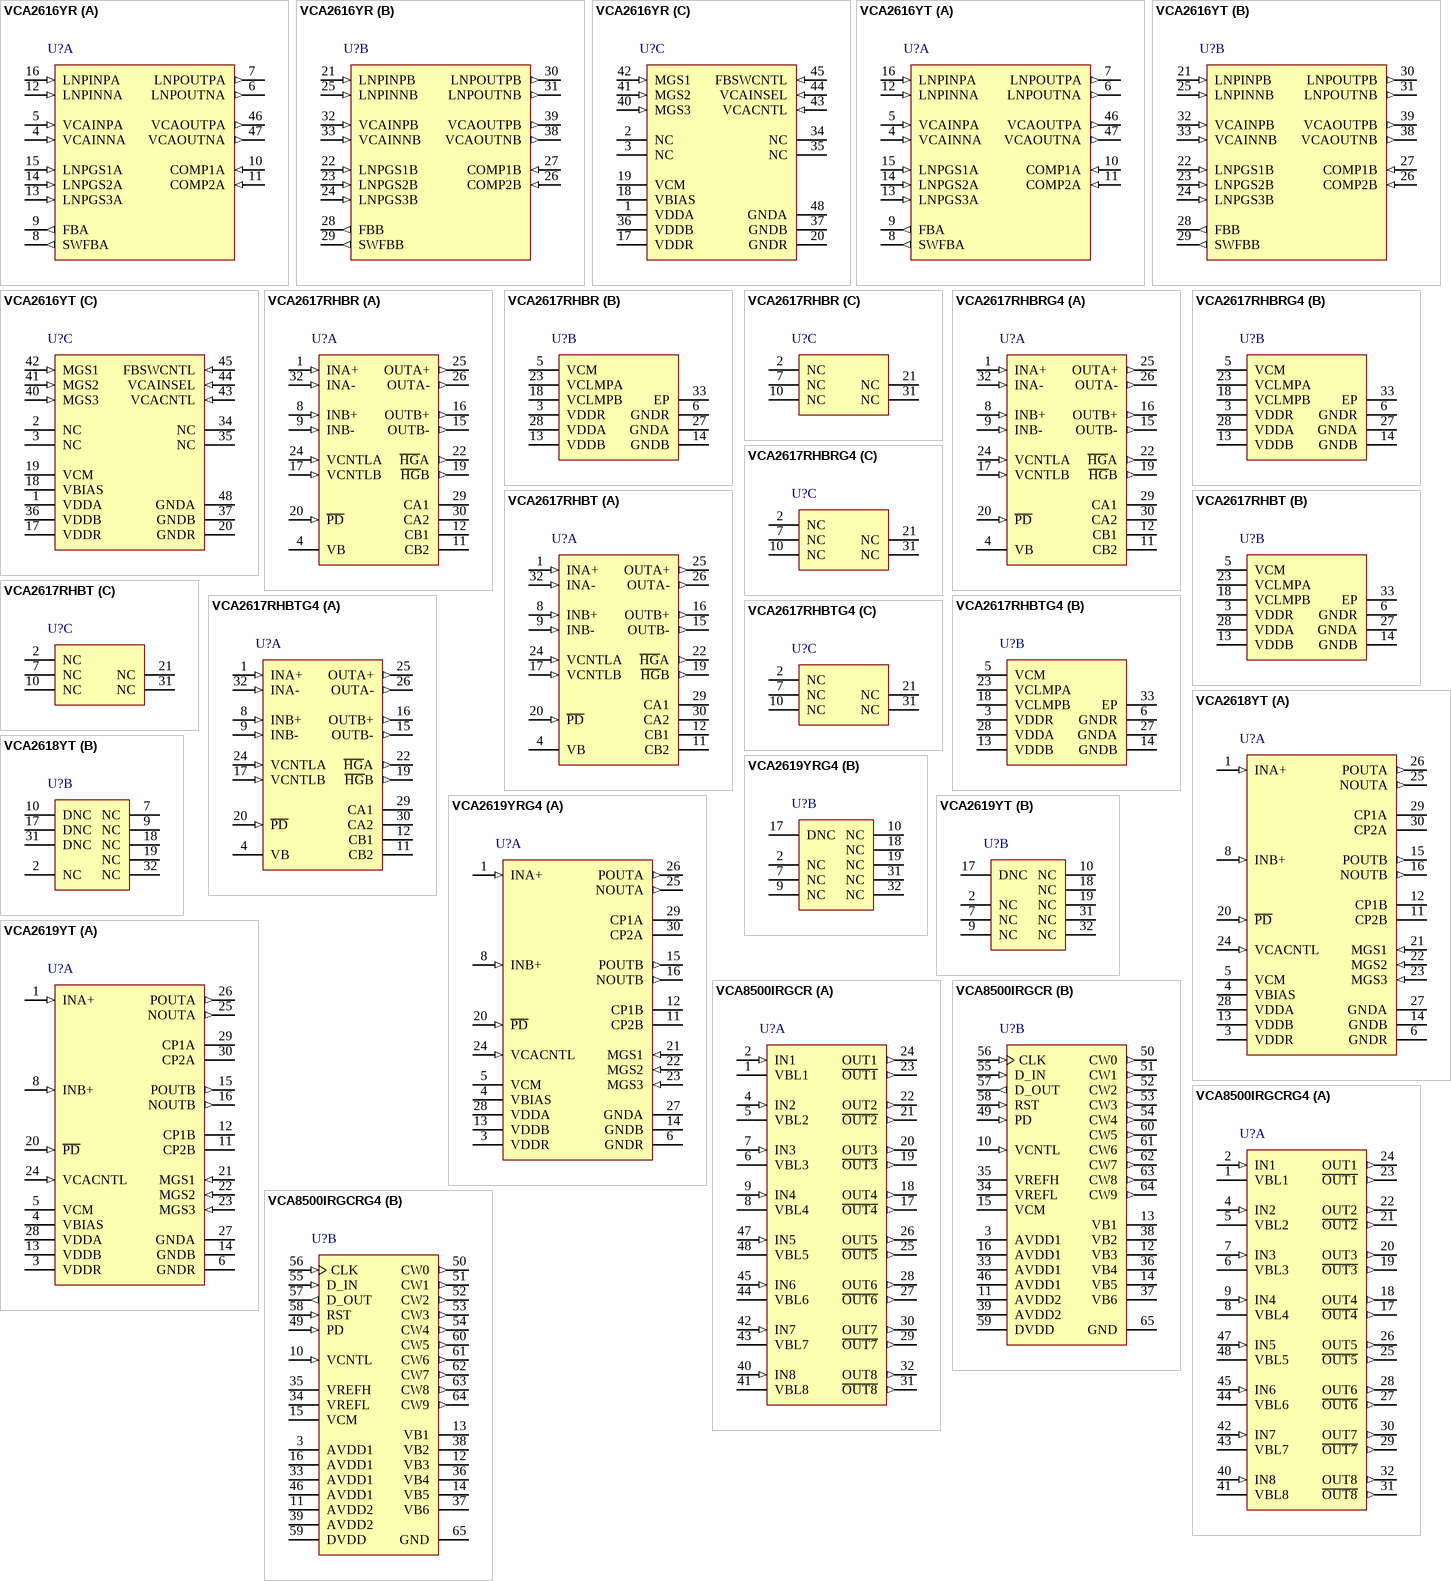
[diagram p6: symbols VCA2616YR to VCA8500IRGCRG4]

## VCA2616YR
designator U?
Dual, Variable Gain Amlifier with Low Noise Pre-Amplifier, -40 to 85 degC, 48-pin QFP (PFB48), Green (RoHS & no Sb/Br); Manufacturer: Texas Instruments; PartNumber: VCA2616YR; BW @ Acl(MHz): 40; Iib(Max)(nA): 1; Number of Channels: 2; Slew Rate(Typ)(V/us): 300; SubFamily: Variable Gain Amplifier; Vn at Flatband(Typ)(nV/rtHz): 4.2; Vs(Max)(V): 5.25; Vs(Min)(V): 4.75; DatasheetVersion: SBOS234E; PackageVersion: 4073176/B, 10/1996; PackageReference: PFB48; PackageDescription: 48-Pin Plastic Flat Pack, Body 7 x 7 mm, Pitch 0.5 mm; Supplier 1: Digi-Key; Supplier Part Number 1: VCA2616YR-ND; Supplier 2: Mouser; Supplier Part Number 2: 595-VCA2616YR; Eco-Plan: Green (RoHS & no Sb/Br); Mounting Technology: Surface Mount; Code_JEDEC: MS-026; ComponentLink1Description: Manufacturer URL; ComponentLink1URL: http://www.ti.com/; ComponentLink2Description: Datasheet; ComponentLink2URL: http://www.ti.com/general/docs/lit/getliterature.tsp?genericPartNumber=VCA2616&fileType=pdf; ComponentLink3Description: Package Specification; ComponentLink3URL: http://www.ti.com/lit/ml/mtqf019a/mtqf019a.pdf
footprint TI-PFB48_N (QFP, 48-Leads, Body 7x7mm, Pitch 0.5mm, IPC Medium Density)
footprint TI-PFB48_L (QFP, 48-Leads, Body 7x7mm, Pitch 0.5mm, IPC High Density)
footprint TI-PFB48_M (QFP, 48-Leads, Body 7x7mm, Pitch 0.5mm, IPC Low Density)
part A pins: 4 VCAINNA (in) "Channel A VCA Negative Input", 5 VCAINPA (in) "Channel A VCA Positive Input", 6 LNPOUTNA (out) "Channel A LNP Negative Output", 7 LNPOUTPA (out) "Channel A LNP Positive Output", 8 SWFBA (out) "Channel A Switched Feedback Output", 9 FBA (out) "Channel A Feedback Output", 10 COMP1A (in) "Channel A Frequency Compensation 1", 11 COMP2A (in) "Channel A Frequency Compensation 2", 12 LNPINNA (in) "Channel A LNP Inverting Input", 13 LNPGS3A (in) "Channel A LNP Gain Strap 3", 14 LNPGS2A (in) "Channel A LNP Gain Strap 2", 15 LNPGS1A (in) "Channel A LNP Gain Strap 1", 16 LNPINPA (in) "Channel A LNP Noninverting Input", 46 VCAOUTPA (out) "Channel A VCA Positive Output", 47 VCAOUTNA (out) "Channel A VCA Negative Output"
part B pins: 21 LNPINPB (in) "Channel B LNP Noninverting Input", 22 LNPGS1B (in) "Channel B LNP Gain Strap 1", 23 LNPGS2B (in) "Channel B LNP Gain Strap 2", 24 LNPGS3B (in) "Channel B LNP Gain Strap 3", 25 LNPINNB (in) "Channel B LNP Inverting Input", 26 COMP2B (in) "Channel B Frequency Compensation 2", 27 COMP1B (in) "Channel B Frequency Compensation 1", 28 FBB (out) "Channel B Feedback Output", 29 SWFBB (out) "Channel B Switched Feedback Output", 30 LNPOUTPB (out) "Channel B LNP Positive Output", 31 LNPOUTNB (out) "Channel B LNP Negative Output", 32 VCAINPB (in) "Channel B VCA Positive Input", 33 VCAINNB (in) "Channel B VCA Negative Input", 38 VCAOUTNB (out) "Channel B VCA Negative Output", 39 VCAOUTPB (out) "Channel B VCA Positive Output"
part C pins: 1 VDDA (power) "Channel A +Supply", 2 NC "Do Not Connect", 3 NC "Do Not Connect", 17 VDDR (power) "+Supply for Internal Reference", 18 VBIAS (power) "0.01uF Bypass to Ground", 19 VCM (power) "0.01uF Bypass to Ground", 20 GNDR (power) "Ground for Internal Reference", 34 NC "Do Not Connect", 35 NC "Do Not Connect", 36 VDDB (power) "Channel B +Analog Supply", 37 GNDB (power) "Channel B Analog Ground", 40 MGS3 (in) "Maximum Gain Select 3 (LSB)", 41 MGS2 (in) "Maximum Gain Select 2", 42 MGS1 (in) "Maximum Gain Select 1 (MSB)", 43 VCACNTL (in) "VCA Control Voltage", 44 VCAINSEL (in) "VCA Input Select, HI = External", 45 FBSWCNTL (in) "Feedback Switch Control: HI = ON", 48 GNDA (power) "Channel A Analog Ground"

## VCA2616YT
designator U?
Dual, Variable Gain Amlifier with Low Noise Pre-Amplifier, -40 to 85 degC, 48-pin QFP (PFB48), Green (RoHS & no Sb/Br); Manufacturer: Texas Instruments; PartNumber: VCA2616YT; BW @ Acl(MHz): 40; Iib(Max)(nA): 1; Number of Channels: 2; Slew Rate(Typ)(V/us): 300; SubFamily: Variable Gain Amplifier; Vn at Flatband(Typ)(nV/rtHz): 4.2; Vs(Max)(V): 5.25; Vs(Min)(V): 4.75; DatasheetVersion: SBOS234E; PackageVersion: 4073176/B, 10/1996; PackageReference: PFB48; PackageDescription: 48-Pin Plastic Flat Pack, Body 7 x 7 mm, Pitch 0.5 mm; Supplier 1: Digi-Key; Supplier Part Number 1: VCA2616YT-ND; Supplier 2: Mouser; Supplier Part Number 2: 595-VCA2616YT; Eco-Plan: Green (RoHS & no Sb/Br); Mounting Technology: Surface Mount; Code_JEDEC: MS-026; ComponentLink1Description: Manufacturer URL; ComponentLink1URL: http://www.ti.com/; ComponentLink2Description: Datasheet; ComponentLink2URL: http://www.ti.com/general/docs/lit/getliterature.tsp?genericPartNumber=VCA2616&fileType=pdf; ComponentLink3Description: Package Specification; ComponentLink3URL: http://www.ti.com/lit/ml/mtqf019a/mtqf019a.pdf
footprint TI-PFB48_N (QFP, 48-Leads, Body 7x7mm, Pitch 0.5mm, IPC Medium Density)
footprint TI-PFB48_L (QFP, 48-Leads, Body 7x7mm, Pitch 0.5mm, IPC High Density)
footprint TI-PFB48_M (QFP, 48-Leads, Body 7x7mm, Pitch 0.5mm, IPC Low Density)
part A pins: 4 VCAINNA (in) "Channel A VCA Negative Input", 5 VCAINPA (in) "Channel A VCA Positive Input", 6 LNPOUTNA (out) "Channel A LNP Negative Output", 7 LNPOUTPA (out) "Channel A LNP Positive Output", 8 SWFBA (out) "Channel A Switched Feedback Output", 9 FBA (out) "Channel A Feedback Output", 10 COMP1A (in) "Channel A Frequency Compensation 1", 11 COMP2A (in) "Channel A Frequency Compensation 2", 12 LNPINNA (in) "Channel A LNP Inverting Input", 13 LNPGS3A (in) "Channel A LNP Gain Strap 3", 14 LNPGS2A (in) "Channel A LNP Gain Strap 2", 15 LNPGS1A (in) "Channel A LNP Gain Strap 1", 16 LNPINPA (in) "Channel A LNP Noninverting Input", 46 VCAOUTPA (out) "Channel A VCA Positive Output", 47 VCAOUTNA (out) "Channel A VCA Negative Output"
part B pins: 21 LNPINPB (in) "Channel B LNP Noninverting Input", 22 LNPGS1B (in) "Channel B LNP Gain Strap 1", 23 LNPGS2B (in) "Channel B LNP Gain Strap 2", 24 LNPGS3B (in) "Channel B LNP Gain Strap 3", 25 LNPINNB (in) "Channel B LNP Inverting Input", 26 COMP2B (in) "Channel B Frequency Compensation 2", 27 COMP1B (in) "Channel B Frequency Compensation 1", 28 FBB (out) "Channel B Feedback Output", 29 SWFBB (out) "Channel B Switched Feedback Output", 30 LNPOUTPB (out) "Channel B LNP Positive Output", 31 LNPOUTNB (out) "Channel B LNP Negative Output", 32 VCAINPB (in) "Channel B VCA Positive Input", 33 VCAINNB (in) "Channel B VCA Negative Input", 38 VCAOUTNB (out) "Channel B VCA Negative Output", 39 VCAOUTPB (out) "Channel B VCA Positive Output"
part C pins: 1 VDDA (power) "Channel A +Supply", 2 NC "Do Not Connect", 3 NC "Do Not Connect", 17 VDDR (power) "+Supply for Internal Reference", 18 VBIAS (power) "0.01uF Bypass to Ground", 19 VCM (power) "0.01uF Bypass to Ground", 20 GNDR (power) "Ground for Internal Reference", 34 NC "Do Not Connect", 35 NC "Do Not Connect", 36 VDDB (power) "Channel B +Analog Supply", 37 GNDB (power) "Channel B Analog Ground", 40 MGS3 (in) "Maximum Gain Select 3 (LSB)", 41 MGS2 (in) "Maximum Gain Select 2", 42 MGS1 (in) "Maximum Gain Select 1 (MSB)", 43 VCACNTL (in) "VCA Control Voltage", 44 VCAINSEL (in) "VCA Input Select, HI = External", 45 FBSWCNTL (in) "Feedback Switch Control: HI = ON", 48 GNDA (power) "Channel A Analog Ground"

## VCA2617RHBR
designator U?
2-Channel Variable Gain Amplifier, -40 to 85 degC, 32-pin QFN (RHB32), Green (RoHS & no Sb/Br); Manufacturer: Texas Instruments; PartNumber: VCA2617RHBR; BW @ Acl(MHz): 50; Number of Channels: 2; Slew Rate(Typ)(V/us): 100; Vn at Flatband(Typ)(nV/rtHz): 4.1; Vs(Max)(V): 5.25; Vs(Min)(V): 4.75; DatasheetVersion: SBOS326; PackageVersion: 4204326/D, 06/2011; PackageReference: RHB32-3150X3150TP; PackageDescription: 32-Pin Plastic Flat Pack, Body 5 x 5 mm, Pitch 0.5 mm; Supplier 1: Digi-Key; Supplier Part Number 1: VCA2617RHBR-ND; Supplier 2: Mouser; Supplier Part Number 2: 595-VCA2617RHBR; Eco-Plan: Green (RoHS & no Sb/Br); SubFamily: Variable Gain Amplifier; Mounting Technology: Surface Mount; Code_JEDEC: MO-220; ComponentLink1Description: Manufacturer URL; ComponentLink1URL: http://www.ti.com/; ComponentLink2Description: Datasheet; ComponentLink2URL: http://www.ti.com/general/docs/lit/getliterature.tsp?genericPartNumber=VCA2617&fileType=pdf; ComponentLink3Description: Package Specification; ComponentLink3URL: http://www.ti.com/lit/ml/mpqf130c/mpqf130c.pdf
footprint TI-RHB32-3150X3150TP_V (QFN, 32-Leads, Body 5x5mm, Pitch 0.5mm, Thermal Pad 3.15x3.15mm)
part A pins: 1 INA+ (in) "Channel A +Input", 4 VB "Bias Voltage, 0.1uF Bypass Capacitor", 8 INB+ (in) "Channel B+ Input", 9 INB- (in) "Channel B- Input", 11 CB2 "Channel B, External Coupling Capacitor", 12 CB1 "Channel B, External Coupling Capacitor", 15 OUTB- (out) "Channel B- Output", 16 OUTB+ (out) "Channel B+ Output", 17 VCNTLB (in) "Channel B Gain Control Voltage Input", 19 ~{HG}B (out) "Channel B High/Low Output Gain (High = Low Gain)", 20 ~{PD} (in) "Power Down (Active High)", 22 ~{HG}A (out) "Channel A High/Low Output Gain (High = Low Gain)", 24 VCNTLA (in) "Channel A Gain Control Voltage Input", 25 OUTA+ (out) "Channel A+ Output", 26 OUTA- (out) "Channel A- Output", 29 CA1 "Channel A; External Coupling Capacitor", 30 CA2 "Channel A; External Coupling Capacitor", 32 INA- (in) "Channel A- Input"
part B pins: 3 VDDR (power) "Reference Supply", 5 VCM (power) "Common-mode Voltage, 0.1uF Bypass Capacitor", 6 GNDR (power) "Internal Reference Ground", 13 VDDB (power) "Channel B Supply", 14 GNDB (power) "Channel B Ground", 18 VCLMPB (power) "Channel B Clamp Voltage", 23 VCLMPA (power) "Channel A Clamp Voltage", 27 GNDA (power) "Channel A Ground", 28 VDDA (power) "Channel A Supply", 33 EP (power) "Thermal Pad tied to Ground Potentia"
part C pins: 2 NC "No Internal Connection", 7 NC "No Internal Connection", 10 NC "No Internal Connection", 21 NC "No Internal Connection", 31 NC "No Internal Connection"

## VCA2617RHBRG4
designator U?
2-Channel Variable Gain Amplifier, -40 to 85 degC, 32-pin QFN (RHB32), Green (RoHS & no Sb/Br); Manufacturer: Texas Instruments; PartNumber: VCA2617RHBRG4; BW @ Acl(MHz): 50; Number of Channels: 2; Slew Rate(Typ)(V/us): 100; Vn at Flatband(Typ)(nV/rtHz): 4.1; Vs(Max)(V): 5.25; Vs(Min)(V): 4.75; DatasheetVersion: SBOS326; PackageVersion: 4204326/D, 06/2011; PackageReference: RHB32-3150X3150TP; PackageDescription: 32-Pin Plastic Flat Pack, Body 5 x 5 mm, Pitch 0.5 mm; Supplier 1: Digi-Key; Supplier Part Number 1: VCA2617RHBRG4-ND; Supplier 2: Mouser; Supplier Part Number 2: 595-VCA2617RHBRG4; Eco-Plan: Green (RoHS & no Sb/Br); SubFamily: Variable Gain Amplifier; Mounting Technology: Surface Mount; Code_JEDEC: MO-220; ComponentLink1Description: Manufacturer URL; ComponentLink1URL: http://www.ti.com/; ComponentLink2Description: Datasheet; ComponentLink2URL: http://www.ti.com/general/docs/lit/getliterature.tsp?genericPartNumber=VCA2617&fileType=pdf; ComponentLink3Description: Package Specification; ComponentLink3URL: http://www.ti.com/lit/ml/mpqf130c/mpqf130c.pdf
footprint TI-RHB32-3150X3150TP_V (QFN, 32-Leads, Body 5x5mm, Pitch 0.5mm, Thermal Pad 3.15x3.15mm)
part A pins: 1 INA+ (in) "Channel A +Input", 4 VB "Bias Voltage, 0.1uF Bypass Capacitor", 8 INB+ (in) "Channel B+ Input", 9 INB- (in) "Channel B- Input", 11 CB2 "Channel B, External Coupling Capacitor", 12 CB1 "Channel B, External Coupling Capacitor", 15 OUTB- (out) "Channel B- Output", 16 OUTB+ (out) "Channel B+ Output", 17 VCNTLB (in) "Channel B Gain Control Voltage Input", 19 ~{HG}B (out) "Channel B High/Low Output Gain (High = Low Gain)", 20 ~{PD} (in) "Power Down (Active High)", 22 ~{HG}A (out) "Channel A High/Low Output Gain (High = Low Gain)", 24 VCNTLA (in) "Channel A Gain Control Voltage Input", 25 OUTA+ (out) "Channel A+ Output", 26 OUTA- (out) "Channel A- Output", 29 CA1 "Channel A; External Coupling Capacitor", 30 CA2 "Channel A; External Coupling Capacitor", 32 INA- (in) "Channel A- Input"
part B pins: 3 VDDR (power) "Reference Supply", 5 VCM (power) "Common-mode Voltage, 0.1uF Bypass Capacitor", 6 GNDR (power) "Internal Reference Ground", 13 VDDB (power) "Channel B Supply", 14 GNDB (power) "Channel B Ground", 18 VCLMPB (power) "Channel B Clamp Voltage", 23 VCLMPA (power) "Channel A Clamp Voltage", 27 GNDA (power) "Channel A Ground", 28 VDDA (power) "Channel A Supply", 33 EP (power) "Thermal Pad tied to Ground Potentia"
part C pins: 2 NC "No Internal Connection", 7 NC "No Internal Connection", 10 NC "No Internal Connection", 21 NC "No Internal Connection", 31 NC "No Internal Connection"